# EAGLE library part WE-FB3751 (library trafo)
TRANSFORMER 1 primary winding, 1 secondary winding For LT3751
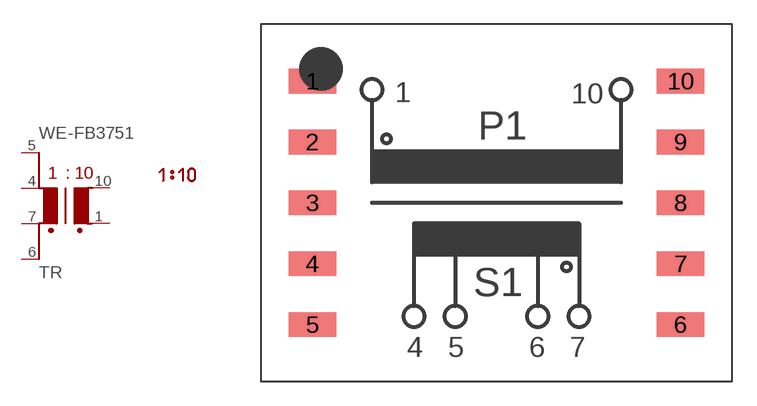
[diagram p51: symbol with the pads of 3751SMD; footprint 3751SMD]

Designator prefix TR

## WE-FB3751  [3751SMD]
1  P1  pas
4  S4  pas
5  S5  pas
6  S6  pas
7  S7  pas
10  P10  pas

## Footprint 3751SMD (pad centres in mm)
TRANSFORMER 1 primary winding, 1 secondary winding For LT3751
smd 2.92 x 1.52: 1 -11.33,7.5; 2 -11.33,3.75; 3 -11.33,0; 4 -11.33,-3.75; 5 -11.33,-7.5; 6 11.33,-7.5; 7 11.33,-3.75; 8 11.33,0; 9 11.33,3.75; 10 11.33,7.5